# Altium schematic symbol library 5015680907.Schlib: 1 symbol
Pins are listed as number, name and electrical type; pins without a type are passive.

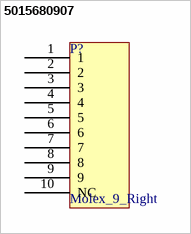
[diagram p0: symbol 5015680907]

## 5015680907
designator P?, comment Molex_9_Right
9 Pin Right Molex PCB Header
pins: 1, 2, 3, 4, 5, 6, 7, 8, 9, 10 NC